# Altium footprint library PcbLib1.PcbLib: 56 footprints (part 1 of 4)
Each footprint in its own frame and in the unit in brackets; x right, y up, seen from the top. Pads: shape width x height; smd on the part's side, far side on the other; paste and mask are expansions set on the pad; w line width, h text height; cw(c..) or ccw(c..) is an arc to the next point about the centre after c.
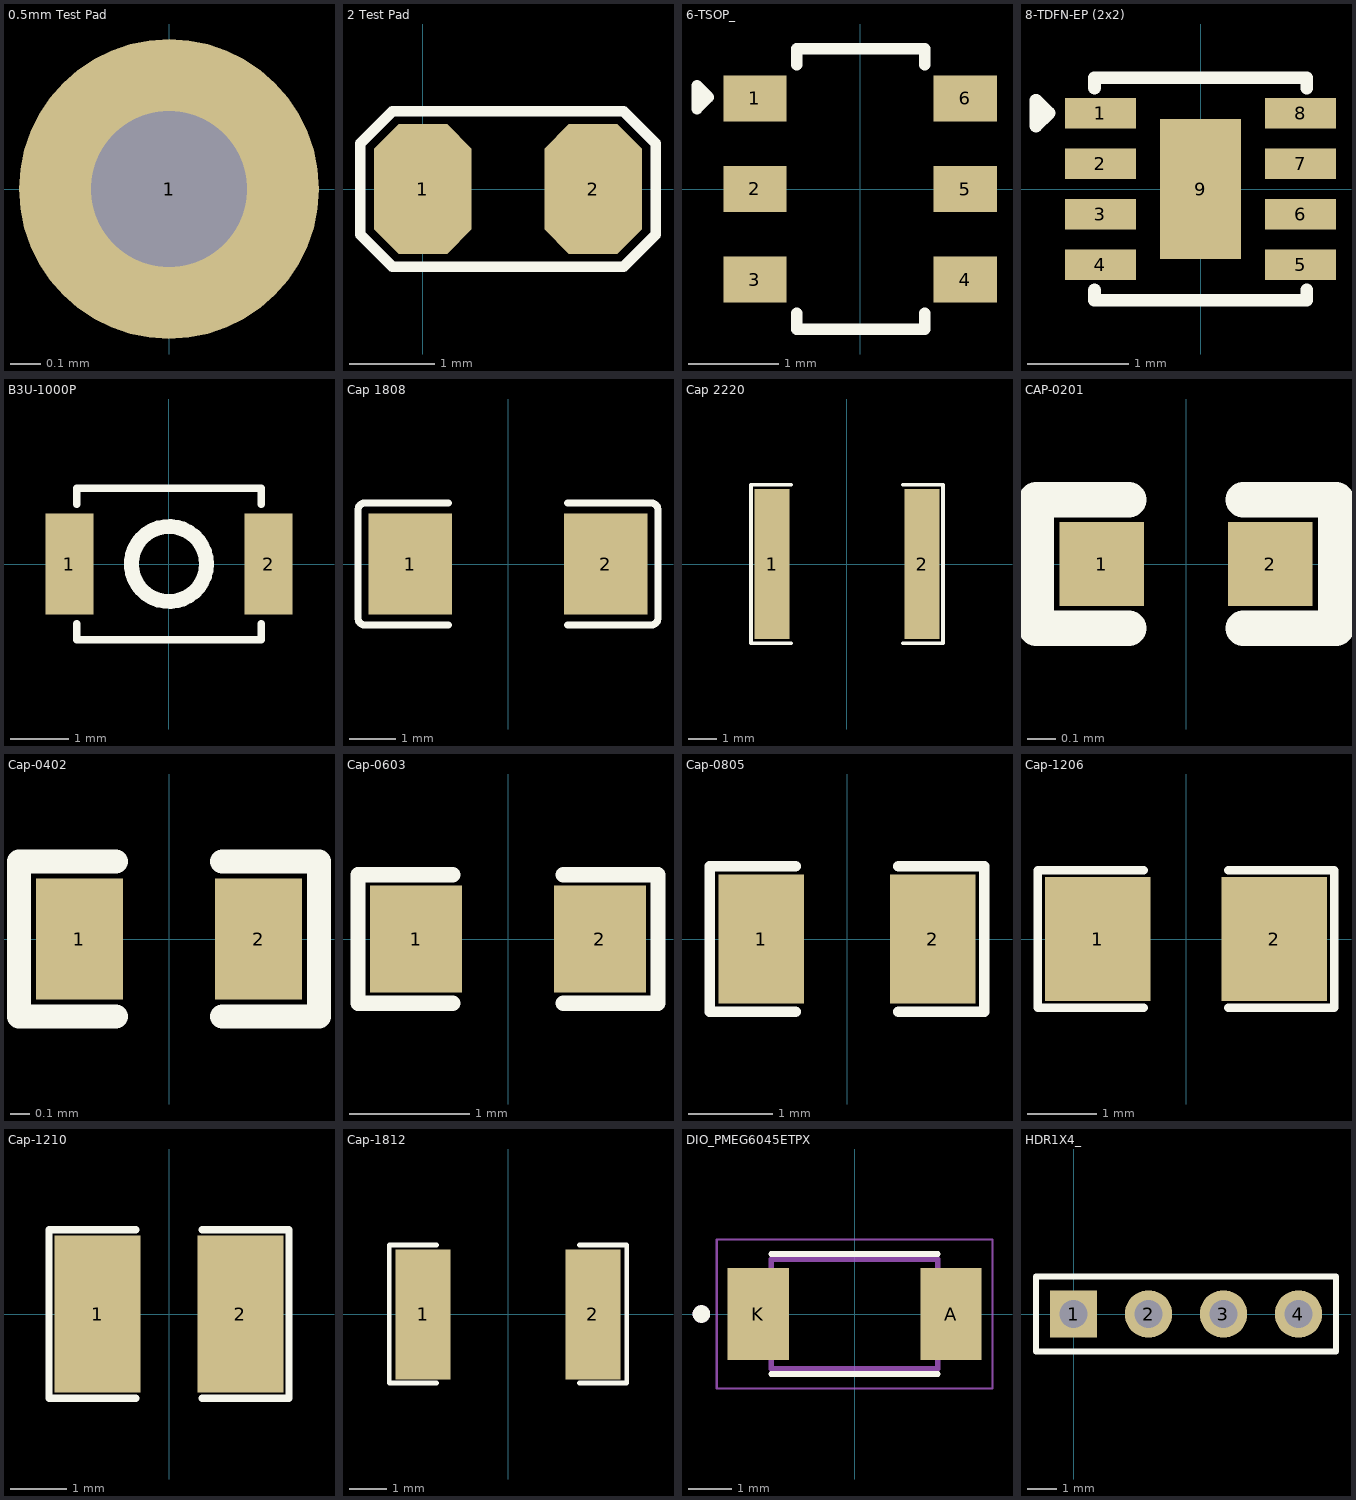
[diagram p0: the footprints below, top view; thin cyan lines are the x and y axes]

## 0.5mm Test Pad [mm]
pads (1):
  round 1 hole 0.52: 1(0,0)

## 2 Test Pad [mil]
pads (2):
  oct 45x60 smd: 1(0,0) 2(78.74,0)
Top Overlay:
  lines w5: -29,-21 -29,21 -14,36 92.74,36 107.74,21 107.74,-21 92.74,-36 -14,-36 -29,-21

## 6-TSOP_ [mil]
pads (6):
  rect 27.52x20 smd: 1(-45.77,39.41) 2(-45.77,0) 3(-45.77,-39.41) 4(45.77,-39.41) 5(45.77,0) 6(45.77,39.41)
Top Overlay:
  lines w5: -27.54,-54 -27.54,-60.98 28,-61 28,-54.02 ; -27.54,54 -27.54,60.98 28,61 28,54.02 ; -71,35 -66,40 -71,45 -71,35
3D body "User Library-TSOP-6.step": height 38.98, standoff -0.39, extent -53.14,-59.06 53.16,59.05

## 8-TDFN-EP (2x2) [mm]
pads (9):
  rect 0.7x0.3 smd: 1(-0.99,0.75) 2(-0.99,0.25) 3(-0.99,-0.25) 4(-0.99,-0.75) 5(0.99,-0.75) 6(0.99,-0.25) 7(0.99,0.25) 8(0.99,0.75)
  rect 0.8x1.38 smd: 9(0,0)
Top Overlay:
  lines w0.127: -1.05,-1 -1.05,-1.1 1.05,-1.1 1.05,-1 ; -1.05,1 -1.05,1.1 1.05,1.1 1.05,1 ; -1.627,0.623 -1.627,0.877 -1.5,0.75 -1.627,0.623
3D body "21-0168E_T822-1_MXM.step": height 0.81, standoff 0, extent -1.054,-1.054 1.054,1.054

## B3U-1000P [mm] "SWITCH TACTILE SPST-NO 0.05A 12V"
pads (2):
  rect 0.82x1.72 smd: 1(-1.7,0) 2(1.7,0)
Top Overlay:
  circle w0.254: c0,0 r0.641
  lines w0.127: -1.575,-1.016 -1.575,-1.295 1.575,-1.295 1.575,-1.016 ; -1.575,1.016 -1.575,1.295 1.575,1.295 1.575,1.016
3D body "User Library-OMRON B3U1000P.step": height 1.6, standoff 0, extent -2,-1.263 2,1.237

## Cap 1808 [mm]
pads (2):
  rect 1.785x2.16 smd paste+0 mask+0.051: 1(-2.093,0) 2(2.093,0)
Top Overlay:
  lines w0.152: -1.276,-1.309 -3.061,-1.309 cw(c-3.061,-1.156) -3.214,-1.156 -3.214,1.156 cw(c-3.061,1.156) -3.061,1.309 -1.276,1.309 ; 1.276,-1.309 3.061,-1.309 ccw(c3.061,-1.156) 3.214,-1.156 3.214,1.156 ccw(c3.061,1.156) 3.061,1.309 1.276,1.309
3D body "1808AA101KAT1A--3DModel-STEP-510211.STEP": height 1.45, standoff 0, extent -2.3,-1 2.3,1

## Cap 2220 [mm]
pads (2):
  rect 1.2x5.2 smd: 1(-2.6,0) 2(2.6,0)
Top Overlay:
  lines w0.127: -1.93,-2.749 -3.327,-2.749 -3.327,2.749 -1.93,2.749 ; 1.93,-2.749 3.327,-2.749 3.327,2.749 1.93,2.749
3D body "CAP2220.stp": height 2.24, standoff -0.04, extent -2.85,-2.5 2.85,2.5

## CAP-0201 [mm]
pads (2):
  rect 0.3x0.3 smd mask+0.055: 1(-0.3,0) 2(0.3,0)
Top Overlay:
  lines w0.127: -0.203,-0.229 -0.533,-0.229 -0.533,0.229 -0.203,0.229 ; 0.203,-0.229 0.533,-0.229 0.533,0.229 0.203,0.229
3D body "User Library-SMD Ceramic Capacitors_0201 (0603)_AB.STEP": height 0.28, standoff -0.02, extent -0.3,-0.15 0.301,0.15

## Cap-0402 [mil]
pads (2):
  rect 18x25 smd mask+2.36: 1(-18.5,0) 2(18.5,0)
Top Overlay:
  lines w5: -11,-16 -31,-16 -31,16 -11,16 ; 11,-16 31,-16 31,16 11,16
3D body "User Library-Capacitor 0402.step": height 18.5, standoff -1.18, extent -19.68,-9.84 19.7,9.85

## Cap-0603 [mil]
pads (2):
  rect 30x35 smd mask+2.36: 1(-30,0) 2(30,0)
Top Overlay:
  lines w5: -18,-21 -49,-21 -49,21 -18,21 ; 18,-21 49,-21 49,21 18,21
3D body "User Library-CAPC1608X09.step": height 34.25, standoff -1.18, extent -31.51,-15.75 31.49,15.74

## Cap-0805 [mil] "SMD 0805"
pads (2):
  rect 40x60 smd mask+2.76: 1(-40,0) 2(40,0)
Top Overlay:
  lines w5: -24,-34 -64,-34 -64,34 -24,34 ; 24,-34 64,-34 64,34 24,34
3D body "User Library-0805 SMD Capacitor.step": height 30, standoff -0.79, extent -39.36,-24.6 39.38,24.61

## Cap-1206 [mil] "SMD 1206"
pads (2):
  rect 60x70 smd: 1(-50,0) 2(50,0)
Top Overlay:
  lines w5: -24,-39 -84,-39 -84,39 -24,39 ; 24,-39 84,-39 84,39 24,39
3D body "User Library-1206 SMD Capacitor.step": height 39.45, standoff 0, extent -62.96,-31.46 63.03,31.53

## Cap-1210 [mil] "SMD 1210"
pads (2):
  rect 60x110 smd: 1(-50,0) 2(50,0)
Top Overlay:
  lines w5: -23,-59 -84,-59 -84,59 -23,59 ; 23,-59 84,-59 84,59 23,59
3D body "User Library-CAPC3225X10.step": height 39.37, standoff 0, extent -62.99,-49.21 63,49.22

## Cap-1812 [mm]
pads (2):
  rect 1.485x3.507 smd: 1(-2.293,0) 2(2.293,0)
Top Overlay:
  lines w0.127: -1.93,-1.85 -3.2,-1.85 -3.2,1.875 -1.93,1.875 ; 1.93,-1.85 3.2,-1.85 3.2,1.875 1.93,1.875
3D body "CAP_4532_TDK.step": height 2.79, standoff 0, extent -2.451,-1.803 2.451,1.803

## DIO_PMEG6045ETPX [mm]
pads (2):
  rect 1.4x2.1 smd paste-0.1: A(2.2,0) K(-2.2,0)
Top Overlay:
  circle w0.2: c-3.5,0 r0.1
  lines w0.127: -1.9,-1.37 1.9,-1.37 ; -1.9,1.37 1.9,1.37
Mechanical 13:
  circle w0.2: c-3.5,0 r0.1
  lines w0.127: -1.9,-1.25 1.9,-1.25 1.9,1.25 -1.9,1.25 -1.9,-1.25
Mechanical 15:
  lines w0.05: -3.15,-1.7 3.15,-1.7 3.15,1.7 -3.15,1.7 -3.15,-1.7
3D body "step_temp.STEP": height 1.1, standoff 0, extent -2.35,-1.25 2.35,1.25

## HDR1X4_ [mm] "Connector; Header; 4 Position"
pads (4):
  rect 1.6x1.6 hole 0.95: 1(0,0)
  round 1.6 hole 0.95: 2(2.54,0) 3(5.08,0) 4(7.62,0)
Top Overlay:
  lines w0.2: -1.27,-1.27 8.89,-1.27 8.89,1.27 -1.27,1.27 -1.27,-1.27
3D body "User Library-1x4 TH Pitch 2_54mm.STEP": height 9.5, standoff -3.2, extent -1.27,-1.27 8.89,1.27